# EAGLE library part OPAMP-QUAD (library ryans-common-components)
Based on LM324 footprint. NOT compatible with RC4136
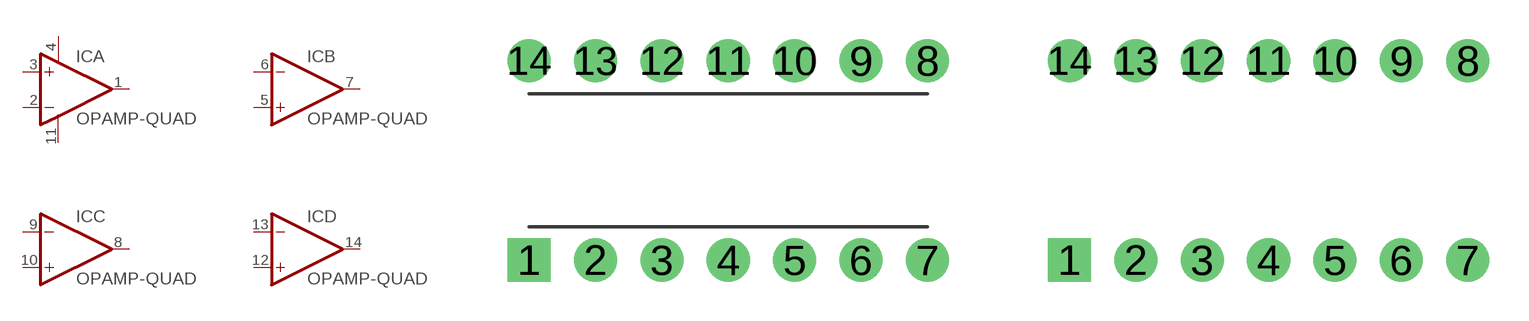
[diagram p12: symbol with the pads of DIP14; footprints DIP14, DIP14-SOCKET]

Designator prefix IC; gates A=OPAMP-MULT-A B=OPAMP-MULT-X C=OPAMP-MULT-X D=OPAMP-MULT-X

## OPAMP-QUAD-DIP14  [DIP14]
1  A:OUT
2  A:IN-
3  A:IN+
4  A:V+
5  B:IN+
6  B:IN-
7  B:OUT
8  C:OUT
9  C:IN-
10  C:IN+
11  A:V-
12  D:IN+
13  D:IN-
14  D:OUT

## OPAMP-QUAD-DIP14-SOCKET  [DIP14-SOCKET]
Pads as for DIP14

## Footprint DIP14 (pad centres in mm)
drill 0.8 pad 1.651 square: 1 -7.62,-3.81
drill 0.8 pad 1.651: 2 -5.08,-3.81; 3 -2.54,-3.81; 4 0,-3.81; 5 2.54,-3.81; 6 5.08,-3.81; 7 7.62,-3.81; 8 7.62,3.81; 9 5.08,3.81; 10 2.54,3.81; 11 0,3.81; 12 -2.54,3.81; 13 -5.08,3.81; 14 -7.62,3.81

## Footprint DIP14-SOCKET (pad centres in mm)
drill 0.8 pad 1.651 square: 1 -7.62,-3.81
drill 0.8 pad 1.651: 2 -5.08,-3.81; 3 -2.54,-3.81; 4 0,-3.81; 5 2.54,-3.81; 6 5.08,-3.81; 7 7.62,-3.81; 8 7.62,3.81; 9 5.08,3.81; 10 2.54,3.81; 11 0,3.81; 12 -2.54,3.81; 13 -5.08,3.81; 14 -7.62,3.81